# Altium footprint library arduino_voltage_monitor_shield.PcbLib: 14 footprints
Each footprint in its own frame and in the unit in brackets; x right, y up, seen from the top. Pads: shape width x height; smd on the part's side, far side on the other; paste and mask are expansions set on the pad; w line width, h text height; cw(c..) or ccw(c..) is an arc to the next point about the centre after c.
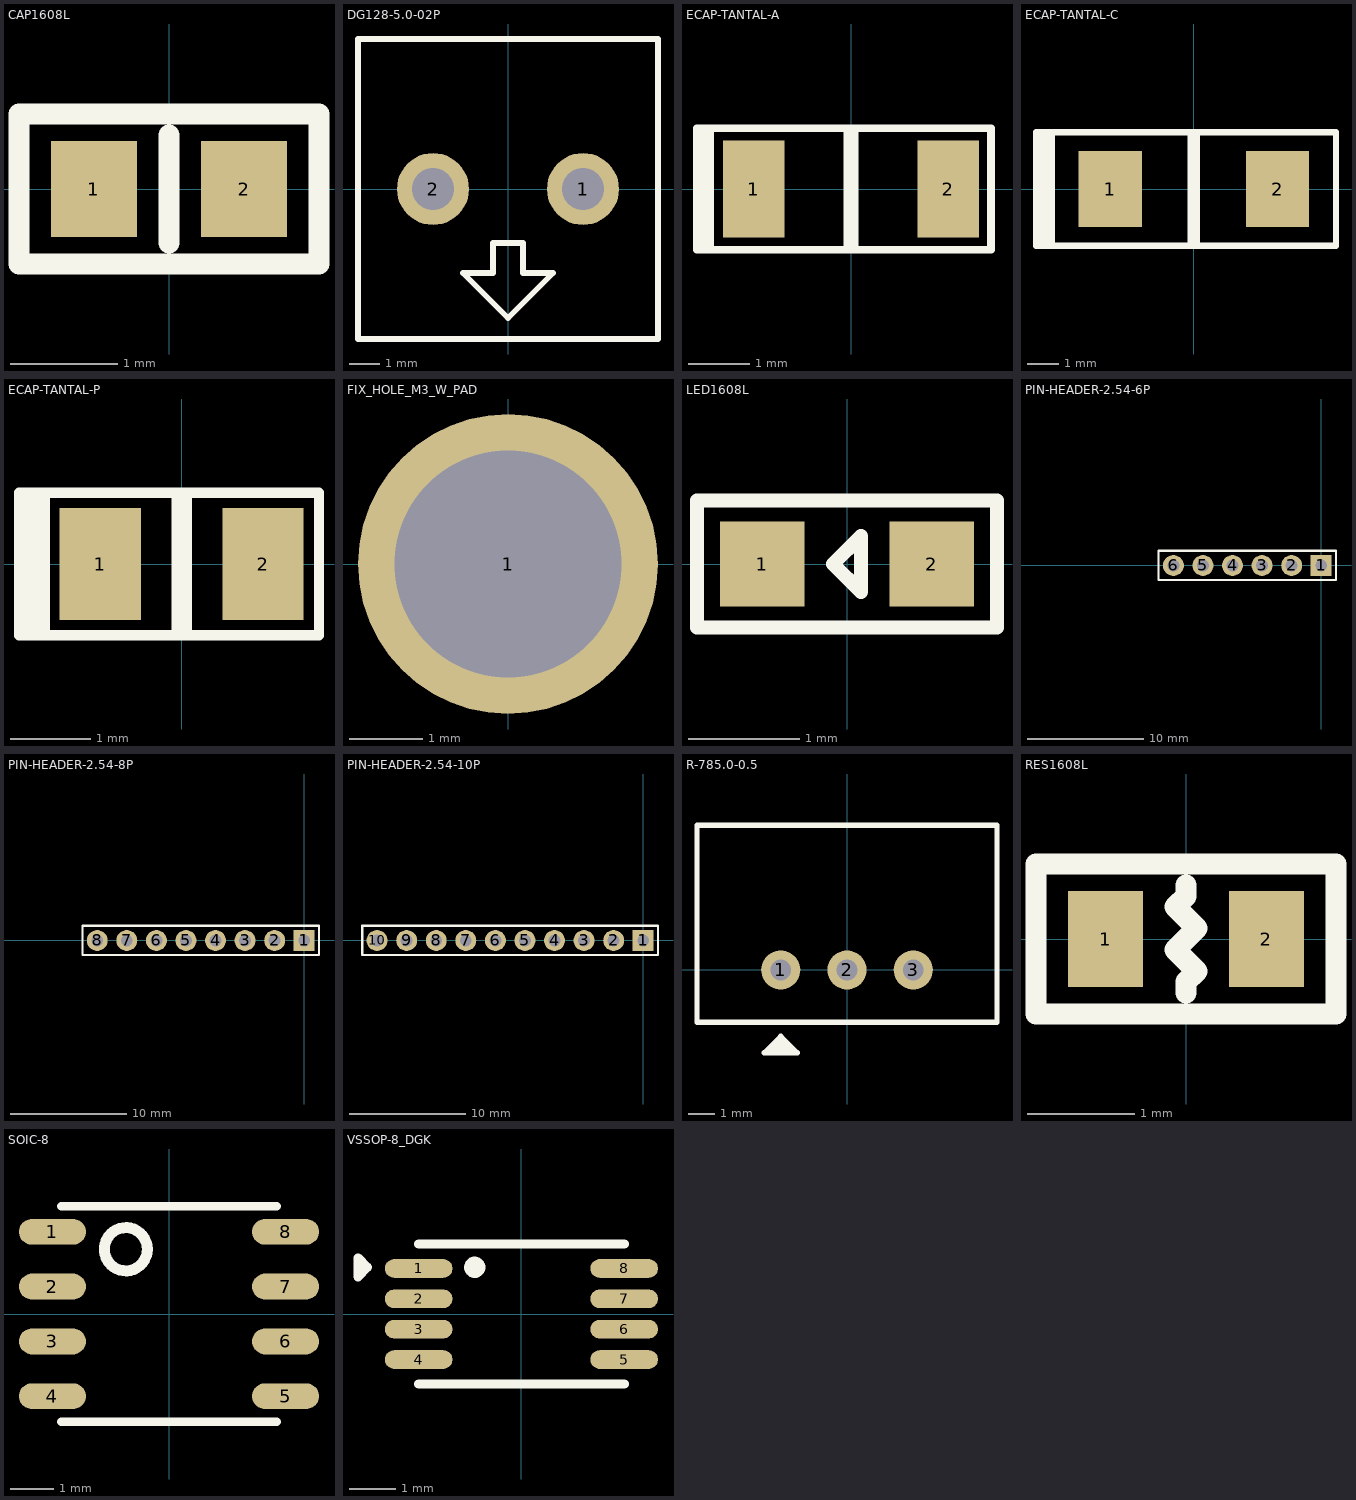
[diagram p0: the footprints below, top view; thin cyan lines are the x and y axes]

## CAP1608L [mm]
pads (2):
  rect 0.8x0.9 smd: 1(-0.7,0) 2(0.7,0)
Top Overlay:
  lines w0.2: 0,-0.5 0,0.5 ; -1.4,-0.7 -1.4,0.7 1.4,0.7 1.4,-0.7 -1.4,-0.7
3D body "User Library-CAPC1608X09.step": height 0.8, standoff 0, extent -0.8,-0.45 0.8,0.45

## DG128-5.0-02P [mm]
height 14
pads (2):
  round 2.4 hole 1.4: 1(2.5,0) 2(-2.5,0)
Top Overlay:
  lines w0.2: -5,-5 5,-5 5,5 -5,5 -5,-5 ; -1.5,-2.8 -0.5,-2.8 -0.5,-1.8 0.5,-1.8 0.5,-2.8 1.5,-2.8 0,-4.3 -1.5,-2.8
3D body: height 0.25, standoff 0, extent -4,4 -4,4
3D body "User Library-DG128-5_0-02P-14.step": height 14.1, standoff -3.5, extent -5.3,-5.2 5,5
3D body: height 0.25, standoff 0, extent -5,4 -5,4
3D body: height 0.25, standoff 0, extent -1.9,2.8 -1.9,2.8

## ECAP-TANTAL-A [mm]
pads (2):
  rect 1.016x1.6 smd: 1(-1.6,0) 2(1.6,0)
Top Overlay:
  rectangle: -2.532,-1 -2.25,1
  lines w0.127: -0.064,-1 -0.064,1 ; 0.064,-1 0.064,1 ; -2.532,-1 -2.532,1 2.3,1 2.3,-1 -2.532,-1
3D body "User Library-Tantalum Capacitor Case A.STEP": height 1.65, standoff 0, extent -1.699,-0.795 1.691,0.805

## ECAP-TANTAL-C [mm]
pads (2):
  rect 2x2.4 smd: 1(-2.65,0) 2(2.65,0)
Top Overlay:
  rectangle: -5,-1.8 -4.4,1.8
  rectangle: -0.2,-1.8 0.2,1.8
  lines w0.2: -5,-1.8 4.5,-1.8 4.5,1.8 -5,1.8 -5,-1.8
3D body "User Library-Tantalum Size C.step": height 2.6, standoff 0, extent -2.9,-1.6 2.9,1.6

## ECAP-TANTAL-P [mil]
pads (2):
  rect 40x55 smd: 1(-40,0) 2(40,0)
Top Overlay:
  region: -65,35 -80,35 -80,-35 -65,-35
  lines w5: -67.5,-35 67.5,-35 67.5,35 -67.5,35 ; -65,-35 -80,-35 -80,35 -65,35 ; -2.5,-35 -2.5,35 ; 2.5,-35 2.5,35
3D body: height 47.24, standoff 0, extent -80,-35 67.5,35

## FIX_HOLE_M3_W_PAD [mm]
pads (1):
  round 4.1 hole 3.1: 1(0,0)

## LED1608L [mil]
pads (2):
  rect 30x30 smd: 1(-30,0) 2(30,0)
Top Overlay:
  lines w5: -53.15,-22.5 -53.15,22.5 53.15,22.5 53.15,-22.5 -53.15,-22.5 ; -4.92,0 4.92,-9.84 4.92,9.84 -4.92,0
3D body "User Library-LED SMD0603.step": height 26.76, standoff 0.19, extent -31.79,-14.48 33.17,14.06

## PIN-HEADER-2.54-6P [mm]
pads (6):
  rect 1.8x1.8 hole 1.02: 1(0,0)
  round 1.8 hole 1.02: 2(-2.54,0) 3(-5.08,0) 4(-7.62,0) 5(-10.16,0) 6(-12.7,0)
Top Overlay:
  region: -24.5,1.5
  lines w0.2: -13.97,-1.25 -13.97,1.25 1.27,1.25 1.27,-1.25 -13.97,-1.25
3D body "pin_header_aw140-eg-g06a.stp": height 8.62, standoff -3.78, extent -13.97,-1.249 1.27,1.249

## PIN-HEADER-2.54-8P [mm]
pads (8):
  rect 1.8x1.8 hole 1.02: 1(0,0)
  round 1.8 hole 1.02: 2(-2.54,0) 3(-5.08,0) 4(-7.62,0) 5(-10.16,0) 6(-12.7,0) 7(-15.24,0) 8(-17.78,0)
Top Overlay:
  region: -24.5,1.5
  lines w0.2: -19.05,-1.25 -19.05,1.25 1.27,1.25 1.27,-1.25 -19.05,-1.25
3D body "pin_header_aw140-eg-g08a.stp": height 8.62, standoff -3.78, extent -19.06,-1.246 1.26,1.253

## PIN-HEADER-2.54-10P [mm]
pads (10):
  rect 1.8x1.8 hole 1.02: 1(0,0)
  round 1.8 hole 1.02: 2(-2.54,0) 3(-5.08,0) 4(-7.62,0) 5(-10.16,0) 6(-12.7,0) 7(-15.24,0) 8(-17.78,0) 9(-20.32,0) 10(-22.86,0)
Top Overlay:
  region: -24.5,1.5
  lines w0.2: -24.13,-1.25 -24.13,1.25 1.27,1.25 1.27,-1.25 -24.13,-1.25
3D body "pin_header_aw140-eg-g10a.stp": height 8.62, standoff -3.78, extent -24.1,-1.246 1.3,1.253

## R-785.0-0.5 [mm]
pads (3):
  round 1.5 hole 0.8: 1(-2.54,0) 2(0,0) 3(2.54,0)
Top Overlay:
  region: -2.54,-2.54 -3.175,-3.175 -1.905,-3.175
  lines w0.2: -5.75,-2 -5.75,5.55 5.75,5.55 5.75,-2 -5.75,-2 ; -3.175,-3.175 -2.54,-2.54 -1.905,-3.175 -3.175,-3.175
3D body: height 10.2, standoff 0, extent -5.75,-2 5.75,5.55

## RES1608L [mm]
pads (2):
  rect 0.7x0.9 smd: 1(-0.75,0) 2(0.75,0)
Top Overlay:
  lines w0.2: 0,-0.5 0,-0.4 0.1,-0.3 -0.1,-0.1 0.1,0.1 -0.1,0.3 0,0.4 0,0.5 ; -1.4,-0.7 1.4,-0.7 1.4,0.7 -1.4,0.7 -1.4,-0.7
3D body "User Library-RESC1608X05N.step": height 0.45, standoff 0, extent -0.775,-0.425 0.775,0.425

## SOIC-8 [mm]
pads (8):
  oval 1.55x0.6 smd: 1(-2.7,1.905) 2(-2.7,0.635) 3(-2.7,-0.635) 4(-2.7,-1.905) 5(2.7,-1.905) 6(2.7,-0.635) 7(2.7,0.635) 8(2.7,1.905)
Top Overlay:
  circle w0.254: c-1,1.5 r0.5
  lines w0.2: -2.5,-2.5 2.5,-2.5 ; -2.5,2.5 2.5,2.5
3D body "User Library-SOIC-8-1.step": height 1.75, standoff 0, extent -3,-2.45 3,2.45

## VSSOP-8_DGK [mm]
pads (8):
  oval 1.45x0.4 smd: 1(-2.2,0.975) 2(-2.2,0.325) 3(-2.2,-0.325) 4(-2.2,-0.975) 5(2.2,-0.975) 6(2.2,-0.325) 7(2.2,0.325) 8(2.2,0.975)
Top Overlay:
  circle w0.254: c-1,1 r0.1
  lines w0.2: -2.2,-1.5 2.2,-1.5 ; -2.2,1.5 2.2,1.5 ; -3.5,0.8 -3.5,1.2 -3.3,1 -3.5,0.8
3D body "User Library-SOP50P310X110-8N[VSSOP_DGK_MO-187AA].step": height 1.15, standoff 0, extent -2.522,-1.55 2.522,1.55